# Altium footprint library MT-60.PcbLib: 1 footprints
Each footprint in its own frame and in the unit in brackets; x right, y up, seen from the top. Pads: shape width x height; smd on the part's side, far side on the other; paste and mask are expansions set on the pad; w line width, h text height; cw(c..) or ccw(c..) is an arc to the next point about the centre after c.
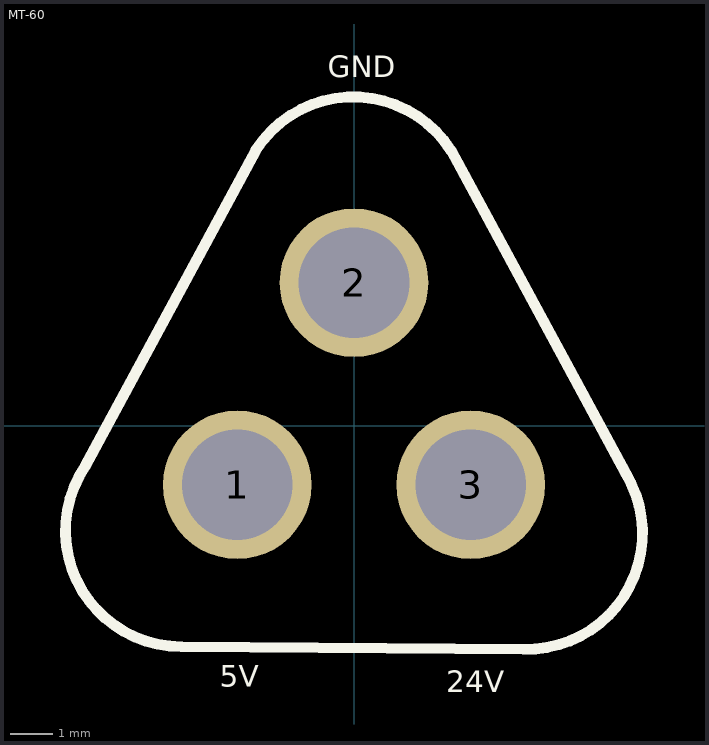
[diagram p0: the footprint, top view; thin cyan lines are the x and y axes]

## MT-60 [mm]
pads (3):
  round 3.5 hole 2.605: 1(-2.75,-1.397) 2(0,3.366) 3(2.75,-1.397)
Top Overlay:
  lines w0.254: -6.335,-0.964 ccw(c-4.064,-2.478) -4.064,-5.207 3.991,-5.268 ccw(c4.064,-2.54) 6.395,-1.12 2.286,6.477 ccw(c-0.016,5.01) -2.307,6.493 -6.335,-0.964
  text "GND" at -0.62,8.199 h0.51
  text "24V" at 2.174,-6.279 h0.51
  text "5V" at -3.16,-6.152 h0.51
Bottom Overlay:
  text "GND" at 0.635,5.588 h0.51
  text "5V" at -2.413,-3.937 h0.51
  text "24V" at 3.556,-4.064 h0.51
3D body "FemaleMT60.stp": height 15, standoff 0, extent -6.804,-5.196 6.804,7.392